# Altium schematic symbol library 2604-3104.SchLib: 1 symbol
Pins are listed as number, name and electrical type; pins without a type are passive.

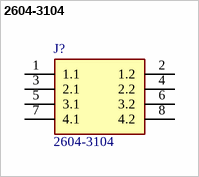
[diagram p0: symbol 2604-3104]

## 2604-3104
designator J?
PCB terminal block; lever; 4 mm; Pin spacing 5 mm; 4-pole; Push-in CAGE CLAMP; Manufacturer_Name: Wago; Geometry.Height: 21.3mm; Manufacturer_Part_Number: 2604-3104; Mouser Part Number: *; Mouser Price/Stock: *; Arrow Part Number: 2604-3104; Arrow Price/Stock: https://www.arrow.com/en/products/2604-3104/wago-kontakttechnik-gmbh?region=nac; Datasheet Link: https://www.wago.com/2604-3104
footprint 26043104
pins: 1 1.1, 2 1.2, 3 2.1, 4 2.2, 5 3.1, 6 3.2, 7 4.1, 8 4.2